# EAGLE library part SHELLY_2.5 (library Shelly_2.5)
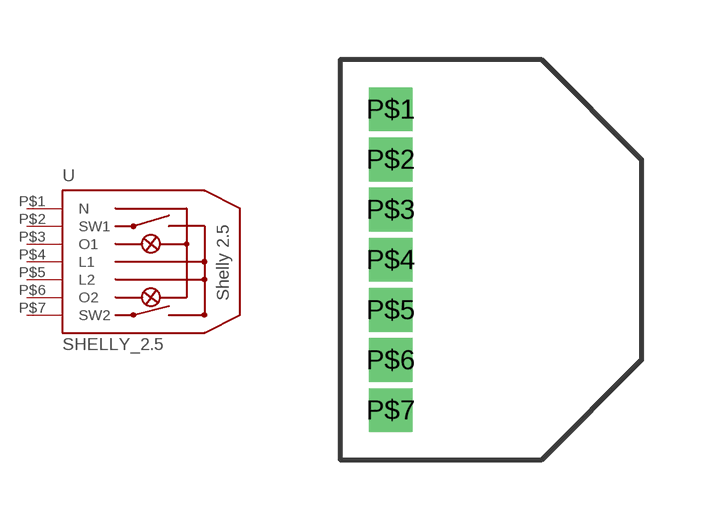
[diagram p0: symbol with the pads of SHELLY_2.5; footprint SHELLY_2.5]

Designator prefix -

## SHELLY_2.5  [SHELLY_2.5]
P$1  N
P$2  SW1
P$3  O1
P$4  L1
P$5  L2
P$6  O2
P$7  SW2

## Footprint SHELLY_2.5 (pad centres in mm)
drill 0.6 square: P$1 0,11.43; P$2 0,10.16; P$3 0,8.89; P$4 0,7.62; P$5 0,6.35; P$6 0,5.08; P$7 0,3.81